# EAGLE library part MC14512BDG (library ON Semiconductor_By_element14_Batch_1)
8-Channel Data Selector
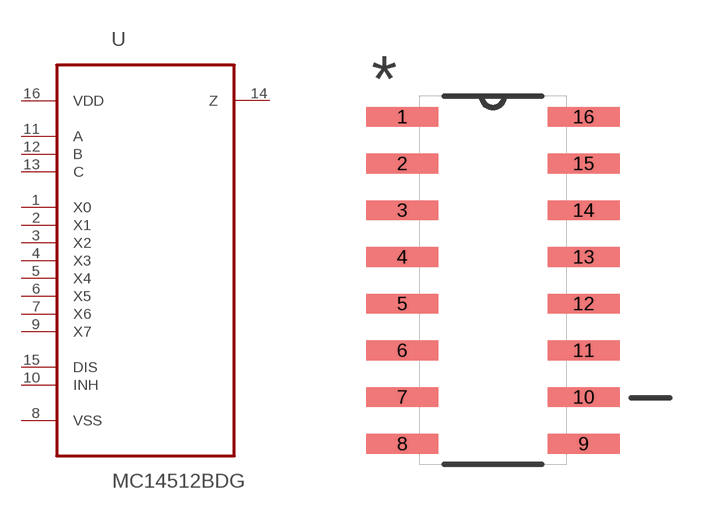
[diagram p279: symbol with the pads of SOIC127P600X175-16N; footprint SOIC127P600X175-16N]

Designator prefix U

## MC14512BDG (MPN: MC14512BDG; OC_FARNELL: -; OC_NEWARK: 71J5491; PACKAGE: SOIC-16; SUPPLIER: ON Semiconductor)  [SOIC127P600X175-16N]
1  X0  in
2  X1  in
3  X2  in
4  X3  in
5  X4  in
6  X5  in
7  X6  in
8  VSS  pwr
9  X7  in
10  INH  in
11  A  in
12  B  in
13  C  in
14  Z  out
15  DIS  in
16  VDD  pwr

## Footprint SOIC127P600X175-16N (pad centres in mm)
smd 1.956 x 0.533: 1 -2.464,4.445; 2 -2.464,3.175; 3 -2.464,1.905; 4 -2.464,0.635; 5 -2.464,-0.635; 6 -2.464,-1.905; 7 -2.464,-3.175; 8 -2.464,-4.445; 9 2.464,-4.445; 10 2.464,-3.175; 11 2.464,-1.905; 12 2.464,-0.635; 13 2.464,0.635; 14 2.464,1.905; 15 2.464,3.175; 16 2.464,4.445